# Altium schematic symbol library TE 5406721.Schlib: 1 symbol
Pins are listed as number, name and electrical type; pins without a type are passive.

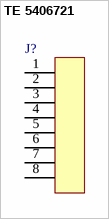
[diagram p0: symbol TE 5406721]

## TE 5406721
designator J?
pins: 1 VCC, 2 VCC, 3 VCC, 4 VCC, 5, 6, 7, 8